# EAGLE library part TCS32XX (library MDB_HOMEBAK)
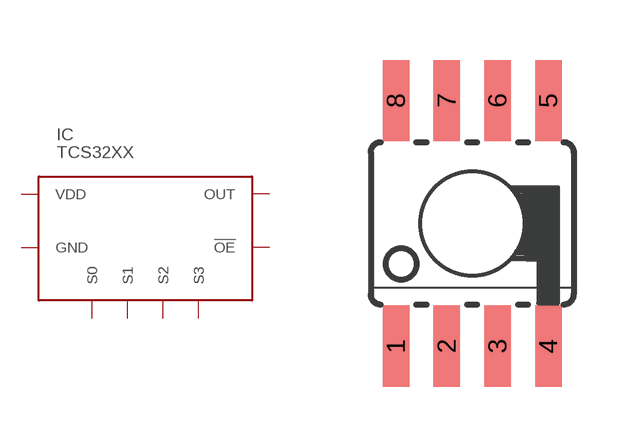
[diagram p47: symbol with the pads of TCS32XX; footprint TCS32XX]

Designator prefix IC

## TCS32XX  [TCS32XX]
1  S0
2  S1
3  !OE
4  GND
5  VDD
6  OUT
7  S2
8  S3

## Footprint TCS32XX (pad centres in mm)
smd 0.66 x 2.032: 1 -1.905,-3.073; 2 -0.635,-3.073; 3 0.635,-3.073; 4 1.905,-3.073; 5 1.905,3.073; 6 0.635,3.073; 7 -0.635,3.073; 8 -1.905,3.073